# EAGLE library part UC3872DW (library wheat)
IC, UC3872 SOIC
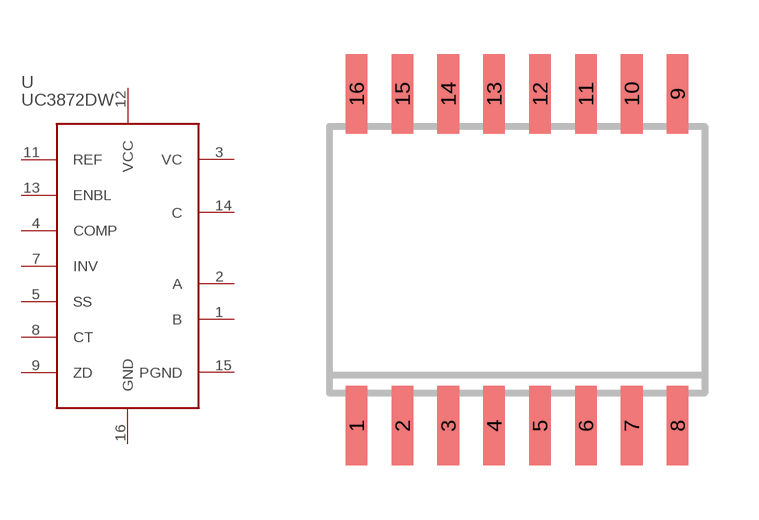
[diagram p32: symbol with the pads of SO16W; footprint SO16W]

Designator prefix U

## UC3872DW  [SO16W]
1  B
2  A
3  VC
4  COMP
5  SS
7  INV
8  CT
9  ZD
11  REF
12  VCC
13  ENBL
14  C
15  PGND
16  GND

## Footprint SO16W (pad centres in mm)
SOIC, 16 PIN WIDE
smd 0.6 x 2.2: 1 -4.445,-4.6; 2 -3.175,-4.6; 3 -1.905,-4.6; 4 -0.635,-4.6; 5 0.635,-4.6; 6 1.905,-4.6; 7 3.175,-4.6; 8 4.445,-4.6; 9 4.445,4.6; 10 3.175,4.6; 11 1.905,4.6; 12 0.635,4.6; 13 -0.635,4.6; 14 -1.905,4.6; 15 -3.175,4.6; 16 -4.445,4.6